# EAGLE library part MCP4017 (library ck)
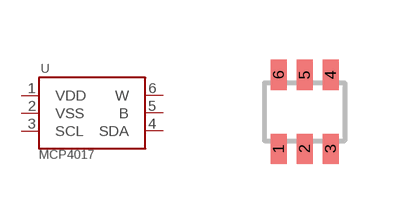
[diagram p6: symbol with the pads of SC70-6; footprint SC70-6]

Designator prefix U

## MCP4017  [SC70-6]
1  VDD  pwr
2  VSS  pwr
3  SCL
4  SDA
5  B
6  W

## Footprint SC70-6 (pad centres in mm)
smd 0.4 x 0.75: 1 -0.65,-0.925; 2 0,-0.925; 3 0.65,-0.925; 4 0.65,0.925; 5 0,0.925; 6 -0.65,0.925